# EAGLE library part PC104_CONN (library SUCHAI)
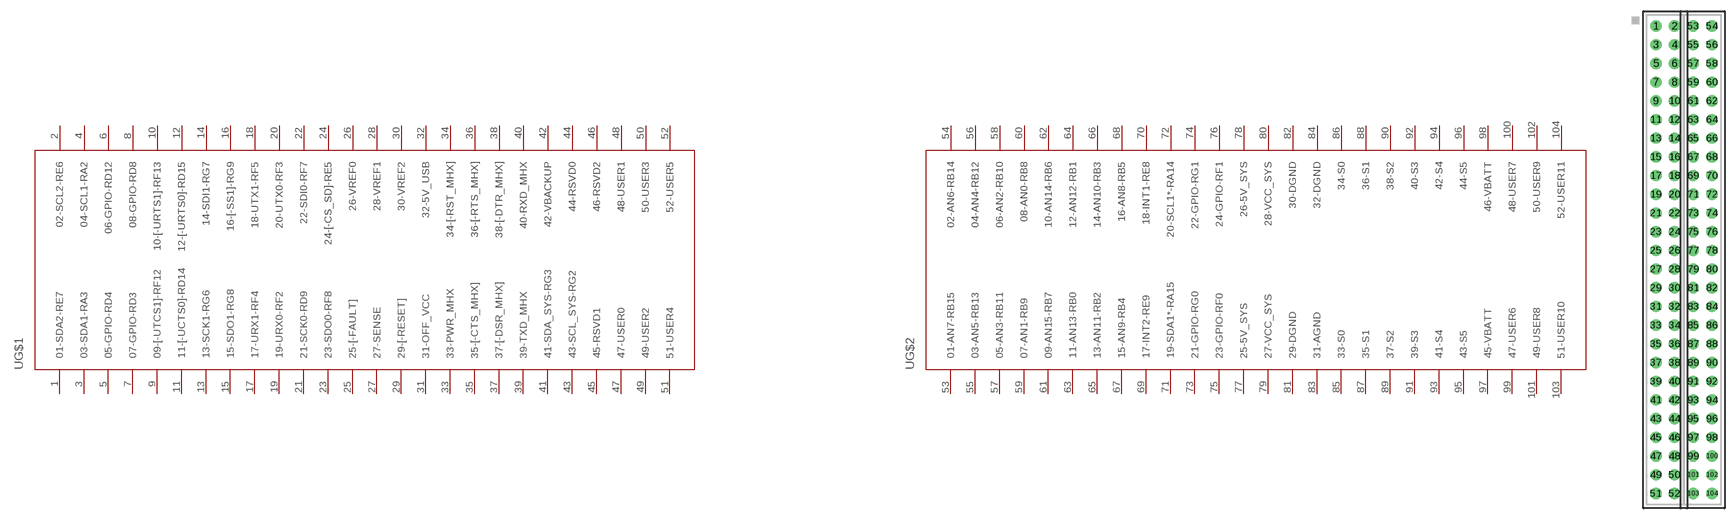
[diagram p7: symbol with the pads of PC_104; footprint PC_104]

Designator prefix -; gates G$1=H1 G$2=H2

## PC104_CONN  [PC_104]
1  G$1:01-SDA2-RE7
2  G$1:02-SCL2-RE6
3  G$1:03-SDA1-RA3
4  G$1:04-SCL1-RA2
5  G$1:05-GPIO-RD4
6  G$1:06-GPIO-RD12
7  G$1:07-GPIO-RD3
8  G$1:08-GPIO-RD8
9  G$1:09-[-UTCS1]-RF12
10  G$1:10-[-URTS1]-RF13
11  G$1:11-[-UCTS0]-RD14
12  G$1:12-[-URTS0]-RD15
13  G$1:13-SCK1-RG6
14  G$1:14-SDI1-RG7
15  G$1:15-SDO1-RG8
16  G$1:16-[-SS1]-RG9
17  G$1:17-URX1-RF4
18  G$1:18-UTX1-RF5
19  G$1:19-URX0-RF2
20  G$1:20-UTX0-RF3
21  G$1:21-SCK0-RD9
22  G$1:22-SDI0-RF7
23  G$1:23-SDO0-RF8
24  G$1:24-[-CS_SD]-RE5
25  G$1:25-[-FAULT]
26  G$1:26-VREF0
27  G$1:27-SENSE
28  G$1:28-VREF1
29  G$1:29-[-RESET]
30  G$1:30-VREF2
31  G$1:31-OFF_VCC
32  G$1:32-5V_USB
33  G$1:33-PWR_MHX
34  G$1:34-[-RST_MHX]
35  G$1:35-[-CTS_MHX]
36  G$1:36-[-RTS_MHX]
37  G$1:37-[-DSR_MHX]
38  G$1:38-[-DTR_MHX]
39  G$1:39-TXD_MHX
40  G$1:40-RXD_MHX
41  G$1:41-SDA_SYS-RG3
42  G$1:42-VBACKUP
43  G$1:43-SCL_SYS-RG2
44  G$1:44-RSVD0
45  G$1:45-RSVD1
46  G$1:46-RSVD2
47  G$1:47-USER0
48  G$1:48-USER1
49  G$1:49-USER2
50  G$1:50-USER3
51  G$1:51-USER4
52  G$1:52-USER5
53  G$2:01-AN7-RB15
54  G$2:02-AN6-RB14
55  G$2:03-AN5-RB13
56  G$2:04-AN4-RB12
57  G$2:05-AN3-RB11
58  G$2:06-AN2-RB10
59  G$2:07-AN1-RB9
60  G$2:08-AN0-RB8
61  G$2:09-AN15-RB7
62  G$2:10-AN14-RB6
63  G$2:11-AN13-RB0
64  G$2:12-AN12-RB1
65  G$2:13-AN11-RB2
66  G$2:14-AN10-RB3
67  G$2:15-AN9-RB4
68  G$2:16-AN8-RB5
69  G$2:17-INT2-RE9
70  G$2:18-INT1-RE8
71  G$2:19-SDA1*-RA15
72  G$2:20-SCL1*-RA14
73  G$2:21-GPIO-RG0
74  G$2:22-GPIO-RG1
75  G$2:23-GPIO-RF0
76  G$2:24-GPIO-RF1
77  G$2:25-5V_SYS
78  G$2:26-5V_SYS
79  G$2:27-VCC_SYS
80  G$2:28-VCC_SYS
81  G$2:29-DGND
82  G$2:30-DGND
83  G$2:31-AGND
84  G$2:32-DGND
85  G$2:33-S0
86  G$2:34-S0
87  G$2:35-S1
88  G$2:36-S1
89  G$2:37-S2
90  G$2:38-S2
91  G$2:39-S3
92  G$2:40-S3
93  G$2:41-S4
94  G$2:42-S4
95  G$2:43-S5
96  G$2:44-S5
97  G$2:45-VBATT
98  G$2:46-VBATT
99  G$2:47-USER6
100  G$2:48-USER7
101  G$2:49-USER8
102  G$2:50-USER9
103  G$2:51-USER10
104  G$2:52-USER11

## Footprint PC_104 (pad centres in mm)
Device pattern for Cubesat's PC104 board This device includes two Samtec's ESQ-126 connector and references for drilling mounting holes. The board has a dimension of 96 mm by 90 mm.
drill 1.016 pad 1.524 round: 1 83.312,76.708; 2 85.852,76.708; 3 83.312,74.168; 4 85.852,74.168; 5 83.312,71.628; 6 85.852,71.628; 7 83.312,69.088; 8 85.852,69.088; 9 83.312,66.548; 10 85.852,66.548; 11 83.312,64.008; 12 85.852,64.008; 13 83.312,61.468; 14 85.852,61.468; 15 83.312,58.928; 16 85.852,58.928; 17 83.312,56.388; 18 85.852,56.388; 19 83.312,53.848; 20 85.852,53.848; 21 83.312,51.308; 22 85.852,51.308; 23 83.312,48.768; 24 85.852,48.768; 25 83.312,46.228; 26 85.852,46.228; 27 83.312,43.688; 28 85.852,43.688; 29 83.312,41.148; 30 85.852,41.148; 31 83.312,38.608; 32 85.852,38.608; 33 83.312,36.068; 34 85.852,36.068; 35 83.312,33.528; 36 85.852,33.528; 37 83.312,30.988; 38 85.852,30.988; 39 83.312,28.448; 40 85.852,28.448; 41 83.312,25.908; 42 85.852,25.908; 43 83.312,23.368; 44 85.852,23.368; 45 83.312,20.828; 46 85.852,20.828; 47 83.312,18.288; 48 85.852,18.288; 49 83.312,15.748; 50 85.852,15.748; 51 83.312,13.208; 52 85.852,13.208; 53 88.392,76.708; 54 90.932,76.708; 55 88.392,74.168; 56 90.932,74.168; 57 88.392,71.628; 58 90.932,71.628; 59 88.392,69.088; 60 90.932,69.088; 61 88.392,66.548; 62 90.932,66.548; 63 88.392,64.008; 64 90.932,64.008; 65 88.392,61.468; 66 90.932,61.468; 67 88.392,58.928; 68 90.932,58.928; 69 88.392,56.388; 70 90.932,56.388; 71 88.392,53.848; 72 90.932,53.848; 73 88.392,51.308; 74 90.932,51.308; 75 88.392,48.768; 76 90.932,48.768; 77 88.392,46.228; 78 90.932,46.228; 79 88.392,43.688; 80 90.932,43.688; 81 88.392,41.148; 82 90.932,41.148; 83 88.392,38.608; 84 90.932,38.608; 85 88.392,36.068; 86 90.932,36.068; 87 88.392,33.528; 88 90.932,33.528; 89 88.392,30.988; 90 90.932,30.988; 91 88.392,28.448; 92 90.932,28.448; 93 88.392,25.908; 94 90.932,25.908; 95 88.392,23.368; 96 90.932,23.368; 97 88.392,20.828; 98 90.932,20.828; 99 88.392,18.288; 100 90.932,18.288; 101 88.392,15.748; 102 90.932,15.748; 103 88.392,13.208; 104 90.932,13.208